# Altium footprint library DO-41.PcbLib: 1 footprints
Each footprint in its own frame and in the unit in brackets; x right, y up, seen from the top. Pads: shape width x height; smd on the part's side, far side on the other; paste and mask are expansions set on the pad; w line width, h text height; cw(c..) or ccw(c..) is an arc to the next point about the centre after c.
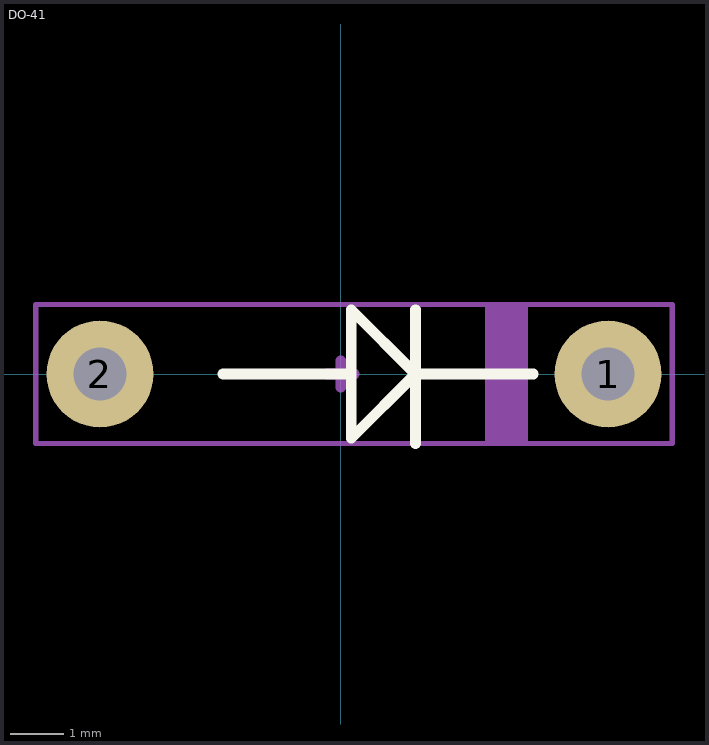
[diagram p0: the footprint, top view; thin cyan lines are the x and y axes]

## DO-41 [mm]
height 0.95
pads (2):
  round 2 hole 1: 1(5,0) 2(-4.5,0)
Top Overlay:
  lines w0.2: -2.2,0 0.2,0 ; 1.4,-1.3 1.4,1.2 ; 3.6,0 1.4,0 ; 1.4,0 0.2,1.2 0.2,-1.2 1.4,0
Top Assembly:
  rectangle: 2.7,-1.3 3.5,1.3
  lines w0.1: -5.7,-1.3 -5.7,1.3 6.2,1.3 6.2,-1.3 -5.7,-1.3
  lines w0.2: -0.25,0 0.25,0 ; 0,-0.25 0,0.25
  text "'.Designator'" at 0,0 h0.7
3D body "User Library-DO-41_375mil.STEP": height 2.83, standoff -2.52, extent -4.93,-1.355 5.455,1.345